# Altium footprint library H2H.PcbLib: 25 footprints (part 2 of 2)
Each footprint in its own frame and in the unit in brackets; x right, y up, seen from the top. Pads: shape width x height; smd on the part's side, far side on the other; paste and mask are expansions set on the pad; w line width, h text height; cw(c..) or ccw(c..) is an arc to the next point about the centre after c.
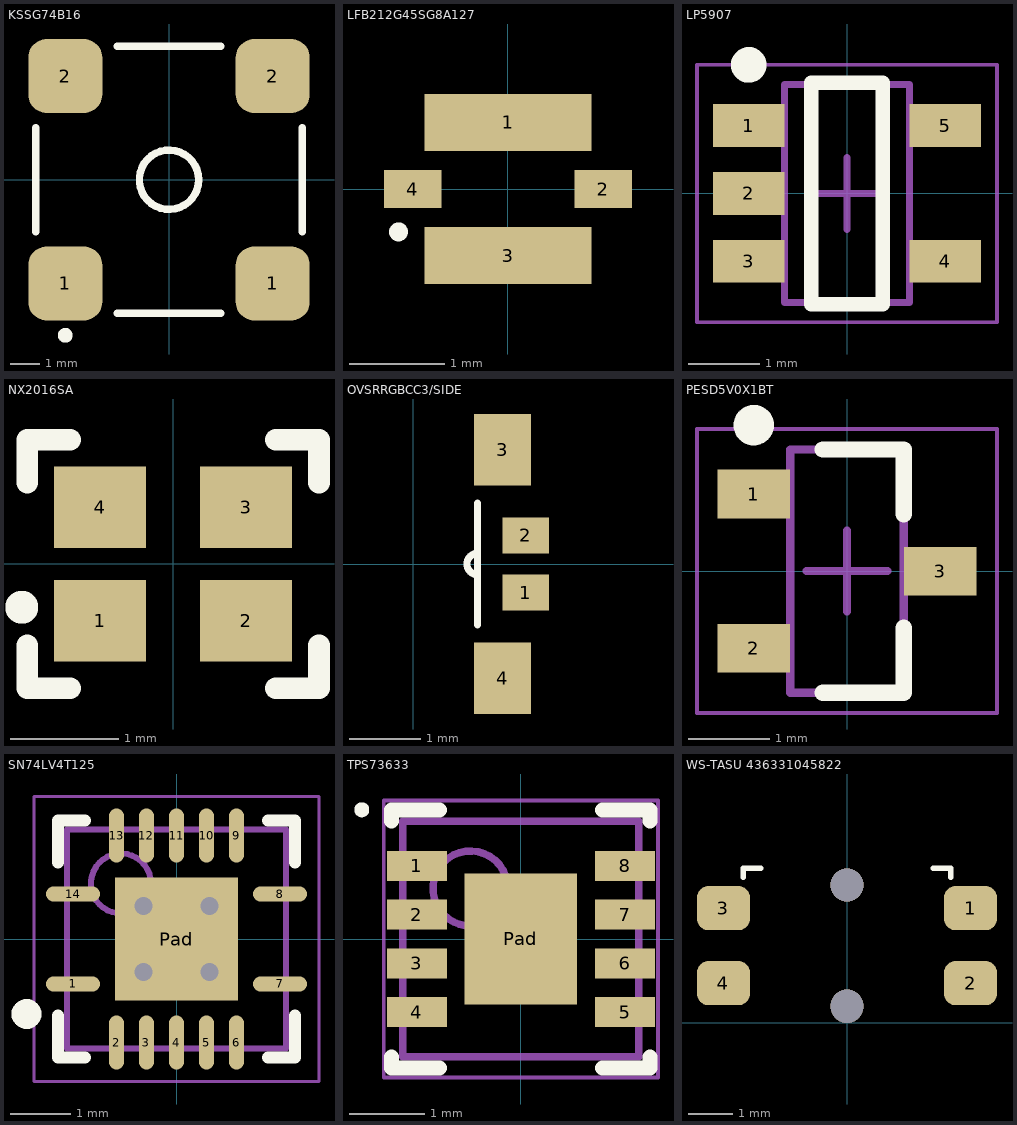
[diagram p1: the footprints below, top view; thin cyan lines are the x and y axes]

## KSSG74B16 [mm] "Transductor - Buzzer 2.7 kHz"
height 3
pads (4):
  rrect50% 2.5x2.5 smd paste-0.25: 1(-3.5,-3.5) 1(3.5,-3.5) 2(-3.5,3.5) 2(3.5,3.5)
Top Overlay:
  circle w0.25: c0,0 r1
  circle w0.25: c-3.5,-5.25 r0.125
  lines w0.25: -4.5,-1.75 -4.5,1.75 ; -1.75,-4.5 1.75,-4.5 ; -1.75,4.5 1.75,4.5 ; 4.5,-1.75 4.5,1.75
3D body: height 3, standoff 0, extent -4.25,-4.25 4.25,4.25
3D body: height 1.5, standoff 0, extent -0.992,-0.998 1,0.998

## LFB212G45SG8A127 [mm] "Filter - RF 2.4 GHz"
height 1
pads (4):
  rect 1.75x0.6 smd mask+0.05: 1(0,0.7) 3(0,-0.7)
  rect 0.6x0.4 smd mask+0.05: 2(1,0) 4(-1,0)
Top Overlay:
  circle w0.1: c-1.15,-0.45 r0.05
3D body: height 1, standoff 0, extent 0,-0.633 1.008,0.633
3D body: height 1, standoff 0, extent -1.008,-0.633 0,0.633
3D body: height 1, standoff 0, extent -1,-0.15 -0.7,0.15
3D body: height 1, standoff 0, extent -0.8,-0.625 0.8,-0.325
3D body: height 1, standoff 0, extent -0.8,0.325 0.8,0.625
3D body: height 1, standoff 0, extent 0.7,-0.15 1,0.15
3D body: height 1, standoff 0, extent -0.55,-0.075 -0.4,0.025

## LP5907 [mm] "SOT23, 5-Leads, Body 2,90x2,80mm, Pitch 0,95mm, IPC Medium Density"
height 1.45
pads (5):
  rect 1x0.6 smd: 1(-1.375,0.95) 2(-1.375,0) 3(-1.375,-0.95) 4(1.375,-0.95) 5(1.375,0.95)
Top Overlay:
  circle w0.25: c-1.375,1.8 r0.125
  lines w0.2: -0.5,-1.55 -0.5,1.55 0.5,1.55 0.5,-1.55 -0.5,-1.55
Mechanical 13:
  lines w0.1: -0.875,-1.525 0.875,-1.525 0.875,1.525 -0.875,1.525 -0.875,-1.525
Mechanical 15:
  lines w0.05: -2.1,-1.8 2.1,-1.8 2.1,1.8 -2.1,1.8 -2.1,-1.8
  lines w0.1: -0.5,0 0.5,0 ; 0,-0.5 0,0.5
3D body: height 1.45, standoff 0.1, extent -0.875,-1.525 0.875,1.525

## NX2016SA [mm] "Crystal - 26 MHz"
height 0.5
pads (4):
  rect 0.85x0.75 smd mask+0.075: 1(-0.675,-0.525) 2(0.675,-0.525) 3(0.675,0.525) 4(-0.675,0.525)
Top Overlay:
  circle w0.254: c-1.4,-0.4 r0.025
  lines w0.2: -1.35,-0.75 -1.35,-1.15 -0.95,-1.15 ; -1.35,0.75 -1.35,1.15 -0.95,1.15 ; 0.95,-1.15 1.35,-1.15 1.35,-0.75 ; 0.95,1.15 1.35,1.15 1.35,0.75
3D body: height 0.3, standoff 0, extent -1,-0.8 1,0.8
3D body: height 0.5, standoff 0.3, extent -0.9,-0.7 0.9,0.7

## OVSRRGBCC3/SIDE [mm] "LED - RGB, Side-emmiting"
height 1
pads (4):
  rect 0.65x0.5 smd mask+0.075: 1(1.575,-0.4) 2(1.575,0.4)
  rect 0.8x1 smd mask+0.075: 3(1.25,1.6) 4(1.25,-1.6)
Top Overlay:
  lines w0.1: 0.9,-0.85 0.9,0.85 ; 0.9,-0.15 cw(c0.9,0) 0.75,0 cw(c0.9,0) 0.9,0.15
3D body: height 0.4, standoff 0, extent 1,1 1.5,1.6
3D body: height 0.4, standoff 0, extent 1,-1.6 1.5,-1
3D body: height 0.4, standoff 0, extent 1,0.15 1.5,0.65
3D body: height 0.4, standoff 0, extent 1,-0.65 1.5,-0.15
3D body: height 0.4, standoff 0, extent 1,-1 1.5,-0.65
3D body: height 0.4, standoff 0, extent 1,-0.15 1.5,0.15
3D body: height 0.4, standoff 0, extent 1,0.65 1.5,1
3D body: height 1, standoff 0.4, extent 1,-1.6 1.5,1.6
3D body: height 1, standoff 0, extent -0.009,-1.009 1,1.009

## PESD5V0X1BT [mm] "SOT23, 3-Leads, Body 2,90x2,30mm, Pitch 0,95mm, IPC Medium Density"
height 1.1
pads (3):
  rect 0.9x0.6 smd: 1(-1.15,0.95) 2(-1.15,-0.95) 3(1.15,0)
Top Overlay:
  circle w0.25: c-1.15,1.8 r0.125
  lines w0.2: -0.3,-1.5 0.7,-1.5 0.7,-0.7 ; -0.3,1.5 0.7,1.5 0.7,0.7
Mechanical 13:
  lines w0.1: -0.7,-1.5 0.7,-1.5 0.7,1.5 -0.7,1.5 -0.7,-1.5
Mechanical 15:
  lines w0.05: -1.85,-1.75 1.85,-1.75 1.85,1.75 -1.85,1.75 -1.85,-1.75
  lines w0.1: -0.5,0 0.5,0 ; 0,-0.5 0,0.5
3D body: height 1.1, standoff 0.1, extent -0.7,-1.5 0.7,1.5

## SN74LV4T125 [mm] "QFN, 14-Leads, Body 3,50x3,50mm, Pitch 0,50mm/1,50mm, Thermal Pad 2,05x2,05mm, IPC Medium Density"
height 1
pads (15):
  oval 0.9x0.25 smd mask+0.07: 1(-1.725,-0.75) 7(1.725,-0.75) 8(1.725,0.75) 14(-1.725,0.75)
  oval 0.25x0.9 smd mask+0.07: 2(-1,-1.725) 3(-0.5,-1.725) 4(0,-1.725) 5(0.5,-1.725) 6(1,-1.725) 9(1,1.725) 10(0.5,1.725) 11(0,1.725) 12(-0.5,1.725) 13(-1,1.725)
  rect 2.05x2.05 smd mask+0.07: Pad(0,0)
via 0.55,-0.55 diameter 0.6 hole 0.3
via -0.55,-0.55 diameter 0.6 hole 0.3
via -0.55,0.55 diameter 0.6 hole 0.3
via 0.55,0.55 diameter 0.6 hole 0.3
Top Overlay:
  circle w0.25: c-2.5,-1.25 r0.125
  lines w0.2: -1.975,-1.275 -1.975,-1.975 -1.525,-1.975 ; -1.975,1.275 -1.975,1.975 -1.525,1.975 ; 1.525,-1.975 1.975,-1.975 1.975,-1.275 ; 1.525,1.975 1.975,1.975 1.975,1.275
Mechanical 13:
  circle w0.1: c-0.925,0.925 r0.5
  lines w0.1: -1.825,-1.825 1.825,-1.825 1.825,1.825 -1.825,1.825 -1.825,-1.825
Mechanical 15:
  lines w0.05: -2.375,-2.375 2.375,-2.375 2.375,2.375 -2.375,2.375 -2.375,-2.375
  lines w0.1: -0.5,0 0.5,0 ; 0,-0.5 0,0.5
3D body: height 1, standoff 0.05, extent -1.825,-1.825 1.825,1.825

## TPS73633 [mm] "PSON, 8-Leads, Body 3,00x3,00mm, Pitch 0,65mm, Thermal Pad 1,75x1,50mm, IPC Medium Density"
height 1
pads (9):
  rect 0.8x0.4 smd mask+0.05: 1(-1.39,0.975) 2(-1.39,0.325) 3(-1.39,-0.325) 4(-1.39,-0.975) 5(1.39,-0.975) 6(1.39,-0.325) 7(1.39,0.325) 8(1.39,0.975)
  rect 1.5x1.75 smd mask+0.05: Pad(0,0)
Top Overlay:
  circle w0.1: c-2.125,1.725 r0.05
  lines w0.2: -1.725,-1.575 -1.725,-1.725 -1.09,-1.725 ; -1.725,1.575 -1.725,1.725 -1.09,1.725 ; 1.09,-1.725 1.725,-1.725 1.725,-1.575 ; 1.09,1.725 1.725,1.725 1.725,1.575
Mechanical 13:
  circle w0.1: c-0.675,0.675 r0.5
  lines w0.1: -1.575,-1.575 1.575,-1.575 1.575,1.575 -1.575,1.575 -1.575,-1.575
Mechanical 15:
  lines w0.05: -1.83,-1.85 1.83,-1.85 1.83,1.85 -1.83,1.85 -1.83,-1.85
  lines w0.1: -0.5,0 0.5,0 ; 0,-0.5 0,0.5
3D body: height 1, standoff 0.05, extent -1.575,-1.575 1.575,1.575

## WS-TASU 436331045822 [mm] "Switch - Tactile, Off-Mom, SPST, Side-Actuated"
height 1.65
pads (4):
  rrect50% 1.2x1 smd: 1(2.8,2.6) 2(2.8,0.9) 3(-2.8,2.6) 4(-2.8,0.9)
via 0,0.375 diameter 0.75 hole 0.75
via 0,3.125 diameter 0.75 hole 0.75
Top Overlay:
  lines w0.125: -2.35,3.3 -2.35,3.5 -1.95,3.5 ; 1.95,3.5 2.35,3.5 2.35,3.3
3D body: height 1.65, standoff 0.25, extent -1.3,-1 1.3,0
3D body: height 1.65, standoff 0, extent -2.35,0 2.35,3.5
3D body: height 0, standoff -0.5, extent -0.3,0.075 0.3,0.675
3D body: height 0, standoff -0.5, extent -0.299,2.825 0.3,3.425
3D body: height 0.2, standoff 0, extent 2.35,2.3 3.2,2.9
3D body: height 0.2, standoff 0, extent -3.2,2.3 -2.35,2.9
3D body: height 0.2, standoff 0, extent -3.2,0.6 -2.35,1.2
3D body: height 0.2, standoff 0, extent 2.35,0.6 3.2,1.2